# Altium schematic symbol library aiskylab-11Electromechanical.SchLib: 22 symbols
Pins are listed as number, name and electrical type; pins without a type are passive.

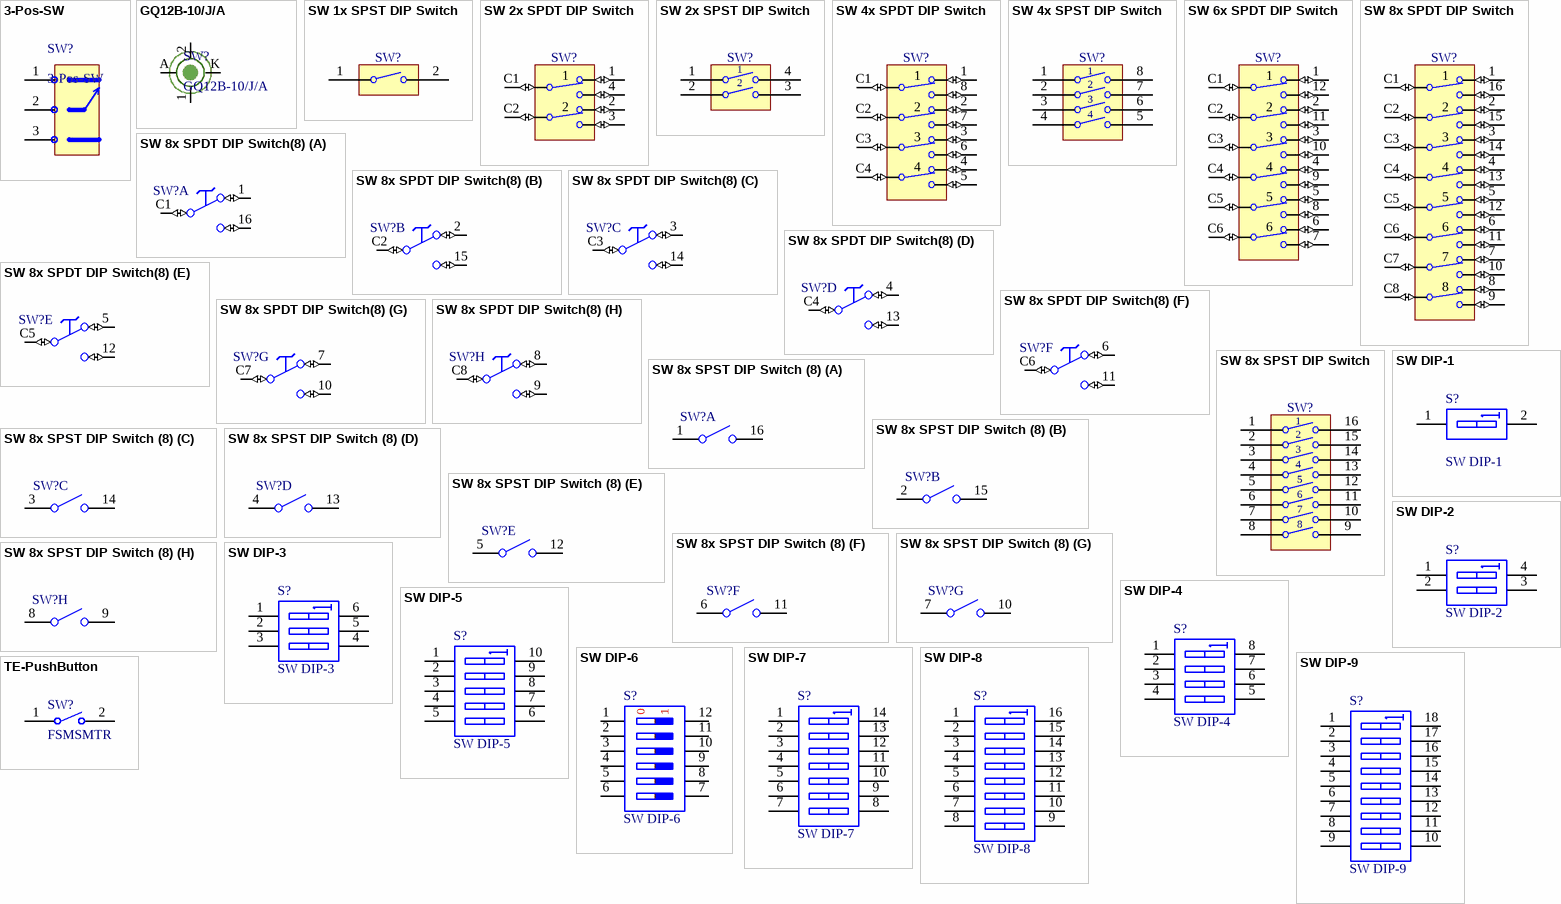
[diagram p0: symbols 3-Pos-SW to TE-PushButton]

## 3-Pos-SW
designator SW?
footprint 3-Pos-SW
pins: 1, 2, 3

## GQ12B-10/J/A
designator SW?
红波开关，RGB带灯
footprint GQ12B-10/J/A (RGBN)
pins: 1, 2, A, K

## SW 1x SPST DIP Switch
designator SW?
1 Ways SPST DIP Switch
pins: 1, 2

## SW 2x SPDT DIP Switch
designator SW?
2x SPDT Switch
pins: 1 NC (io), 2 NC (io), 3 NO (io), 4 NO (io), C1 C (io), C2 C (io)

## SW 2x SPST DIP Switch
designator SW?
2 Ways SPST DIP Switch
pins: 1, 2, 3, 4

## SW 4x SPDT DIP Switch
designator SW?
4x SPDT Switch
pins: 1 NC (io), 2 NC (io), 3 NC (io), 4 NC (io), 5 NO (io), 6 NO (io), 7 NO (io), 8 NO (io), C1 C (io), C2 C (io), C3 C (io), C4 C (io)

## SW 4x SPST DIP Switch
designator SW?
4 Ways SPST DIP Switch
pins: 1, 2, 3, 4, 5, 6, 7, 8

## SW 6x SPDT DIP Switch
designator SW?
6x SPDT Switch
pins: 1 NC (io), 2 NC (io), 3 NC (io), 4 NC (io), 5 NC (io), 6 NC (io), 7 NO (io), 8 NO (io), 9 NO (io), 10 NO (io), 11 NO (io), 12 NO (io), C1 C (io), C2 C (io), C3 C (io), C4 C (io), C5 C (io), C6 C (io)

## SW 8x SPDT DIP Switch
designator SW?
8x SPDT Switch
pins: 1 NC (io), 2 NC (io), 3 NC (io), 4 NC (io), 5 NC (io), 6 NC (io), 7 NC (io), 8 NC (io), 9 NO (io), 10 NO (io), 11 NO (io), 12 NO (io), 13 NO (io), 14 NO (io), 15 NO (io), 16 NO (io), C1 C (io), C2 C (io), C3 C (io), C4 C (io), C5 C (io), C6 C (io), C7 C (io), C8 C (io)

## SW 8x SPDT DIP Switch(8)
designator SW?
8x SPDT Switch
part A pins: 1 NC (io), 16 NO (io), C1 C (io)
part B pins: 2 NC (io), 15 NO (io), C2 C (io)
part C pins: 3 NC (io), 14 NO (io), C3 C (io)
part D pins: 4 NC (io), 13 NO (io), C4 C (io)
part E pins: 5 NC (io), 12 NO (io), C5 C (io)
part F pins: 6 NC (io), 11 NO (io), C6 C (io)
part G pins: 7 NC (io), 10 NO (io), C7 C (io)
part H pins: 8 NC (io), 9 NO (io), C8 C (io)

## SW 8x SPST DIP Switch
designator SW?
8 Ways SPST DIP Switch
pins: 1, 2, 3, 4, 5, 6, 7, 8, 9, 10, 11, 12, 13, 14, 15, 16

## SW 8x SPST DIP Switch (8)
designator SW?
8 Ways SPST DIP Switch
part A pins: 1, 16
part B pins: 2, 15
part C pins: 3, 14
part D pins: 4, 13
part E pins: 5, 12
part F pins: 6, 11
part G pins: 7, 10
part H pins: 8, 9

## SW DIP-1
designator S?
DIP Switch, 2 Position, SPST; Published: 24-Mar-1999; LatestRevisionDate: 17-Jul-2002; LatestRevisionNote: Re-released for DXP Platform.; PackageReference: DIP-4; Publisher: Altium Limited
footprint SW_OMRON_A6SN-1101 (Body 4.48x7.5mm, 1 Ways SPST Surface-Mounting DIP Switch, OMRON A6SN)
pins: 1 A1, 2 B1

## SW DIP-2
designator S?
DIP Switch, 2 Position, SPST; Published: 24-Mar-1999; LatestRevisionDate: 17-Jul-2002; LatestRevisionNote: Re-released for DXP Platform.; PackageReference: DIP-4; Publisher: Altium Limited
footprint SW_OMRON_A6S-2102-H (Pitch 2.54mm, Body 6.2x6.4mm, 2 Ways SPST Surface-Mounting DIP Switch, OMRON A6S-H)
pins: 1 A1, 2 A2, 3 B2, 4 B1

## SW DIP-3
designator S?
DIP Switch, 3 Position, SPST; Published: 24-Mar-1999; LatestRevisionDate: 17-Jul-2002; LatestRevisionNote: Re-released for DXP Platform.; PackageReference: DIP-6; Publisher: Altium Limited; Code_JEDEC: MO-001-AM
footprint DIP-6 (DIP; 6 Leads; Row Spacing 7.62 mm; Pitch 2.54 mm)
simulation model dpsw3 (Spice Subcircuit)
pins: 1 A1, 2 A2, 3 A3, 4 B3, 5 B2, 6 B1

## SW DIP-4
designator S?
DIP Switch, 4 Position, SPST; Published: 24-Mar-1999; LatestRevisionDate: 29-May-2009; LatestRevisionNote: IPC-7351 Footprint Added.; PackageVersion: Dec-2002; PackageReference: SO8; Publisher: Altium Limited; PackageDescription: 8-Pin Small Outline Integrated Circuit 1.27 mm Pitch; Code_JEDEC: MS-012-AA; Code_IPC: SOIC127P600-8
footprint SW_OMRON_A6S-4102-H (Pitch 2.54mm, Body 11.3x6.4mm, 4 Ways SPST Surface-Mounting DIP Switch, OMRON A6S-H)
footprint SW_OMRON_A6H-4102 (Pitch 1.27mm, Body 6.31 x 4.5mm, 4 Ways SPST Surface-Mounting DIP Switch, OMRON A6H)
pins: 1 A1, 2 A2, 3 A3, 4 A4, 5 B4, 6 B3, 7 B2, 8 B1

## SW DIP-5
designator S?
DIP Switch, 5 Position, SPST; Published: 24-Mar-1999; LatestRevisionDate: 17-Jul-2002; LatestRevisionNote: Re-released for DXP Platform.; PackageReference: N10A; Publisher: Altium Limited
footprint DIP-10/D14.5 (DIP; 10 Leads; Row Spacing 7.62 mm; Pitch 2.54 mm)
simulation model dpsw5 (Spice Subcircuit)
pins: 1 A1, 2 A2, 3 A3, 4 A4, 5 A5, 6 B5, 7 B4, 8 B3, 9 B2, 10 B1

## SW DIP-6
designator S?
DIP Switch, 6 Position, SPST; Published: 24-Mar-1999; LatestRevisionDate: 17-Jul-2002; LatestRevisionNote: Re-released for DXP Platform.; PackageReference: DIP-12/SW; Publisher: Altium Limited
footprint DIP-12/SW (DIP Switch; 12 Leads)
pins: 1 A1, 2 A2, 3 A3, 4 A4, 5 A5, 6 A6, 7 B6, 8 B5, 9 B4, 10 B3, 11 B2, 12 B1
text: 0

## SW DIP-7
designator S?
DIP Switch, 7 Position, SPST; Published: 24-Mar-1999; LatestRevisionDate: 17-Jul-2002; LatestRevisionNote: Re-released for DXP Platform.; PackageReference: DIP-14; Publisher: Altium Limited; Code_JEDEC: MO-001-AF
footprint DIP-14 (DIP; 14 Leads; Row Spacing 7.62 mm; Pitch 2.54 mm)
simulation model dpsw7 (Spice Subcircuit)
pins: 1 A1, 2 A2, 3 A3, 4 A4, 5 A5, 6 A6, 7 A7, 8 B7, 9 B6, 10 B5, 11 B4, 12 B3, 13 B2, 14 B1

## SW DIP-8
designator S?
DIP Switch, 8 Position, SPST; Published: 24-Mar-1999; LatestRevisionDate: 17-Jul-2002; LatestRevisionNote: Re-released for DXP Platform.; PackageReference: DIP_SW_8WAY_SMD; Publisher: Altium Limited
footprint SW_OMRON_A6H-8102 (Pitch 1.27mm, Body 11.39 x 4.5mm, 8 Ways SPST Surface-Mounting DIP Switch, OMRON A6H)
footprint SW_OMRON_A6S-8102-H (Pitch 2.54mm, Body 21.5x6.4mm, 8 Ways SPST Surface-Mounting DIP Switch, OMRON A6S-H)
pins: 1 A1, 2 A2, 3 A3, 4 A4, 5 A5, 6 A6, 7 A7, 8 A8, 9 B8, 10 B7, 11 B6, 12 B5, 13 B4, 14 B3, 15 B2, 16 B1

## SW DIP-9
designator S?
DIP Switch, 9 Position, SPST; Published: 24-Mar-1999; LatestRevisionDate: 17-Jul-2002; LatestRevisionNote: Re-released for DXP Platform.; PackageReference: DIP-18; Publisher: Altium Limited; Code_JEDEC: MO-036-AE
footprint DIP-18 (DIP; 18 Leads; Row Spacing 7.62 mm; Pitch 2.54 mm)
simulation model dpsw9 (Spice Subcircuit)
pins: 1 A1, 2 A2, 3 A3, 4 A4, 5 A5, 6 A6, 7 A7, 8 A8, 9 A9, 10 B9, 11 B8, 12 B7, 13 B6, 14 B5, 15 B4, 16 B3, 17 B2, 18 B1

## TE-PushButton
designator SW?, comment FSMSMTR
FSMSM Push Button Switch, 50 mA, -35 to 85 degC, 2-Pin SMD, RoHS, Tape and Reel; Manufacturer: TE Connectivity; Voltage Rating (DC): 24V; Electrical Life: 20000Cycles; Operating Force: 180gf; Switch Travel: 0.25mm; Contact Current Rating: 50mA; Case\/Package: SMD/SMT; Actuator Length: 1.07mm; Throw Configuration: SPST; Actuator Material: Polyamide; Contact Resistance: 100mOhm; Illumination Type: Illuminated; Max Voltage Rating (DC): 12V; Manufacturer URL: http://www.te.com/; Lead Free: LeadFree; Packaging: TapeandReel; Min Operating Temperature: -35degC; Mechanical Life: 20000Cycles; Mount: SurfaceMount; REACH SVHC: Unknown; Package Quantity: 1800; Package Reference: FSMSMTR; RoHSCompliant: true; Max Operating Temperature: 85degC; Orientation: Straight; ELV: Compliant; Datasheet URL: http://www.te.com/commerce/DocumentDelivery/DDEController?Action=showdoc&DocId=Customer+Drawing%7F1437566-3%7FC2%7Fpdf%7FEnglish%7FENG_CD_1437566-3_C2_1437566_3_1_c.dwg.pdf%7F1437566-4; Package Description: 2-Pin Surface Mount Device, Body 6 x 3.5 mm, Pitch 9.19 mm; Current Rating: 50mA; Contact Plating: Silver; Termination: GullWing; Datasheet Version: Rev. C2, 08/2014; Contact Material: Brass; Mounting Technology: SurfaceMount
footprint TECO-FSMSMTR_V (SMD, 2-Leads, Body 6x3.5mm, Pitch 9.19mm)
pins: 1, 2